# Altium footprint library 8494.PcbLib: 3 footprints
Each footprint in its own frame and in the unit in brackets; x right, y up, seen from the top. Pads: shape width x height; smd on the part's side, far side on the other; paste and mask are expansions set on the pad; w line width, h text height; cw(c..) or ccw(c..) is an arc to the next point about the centre after c.
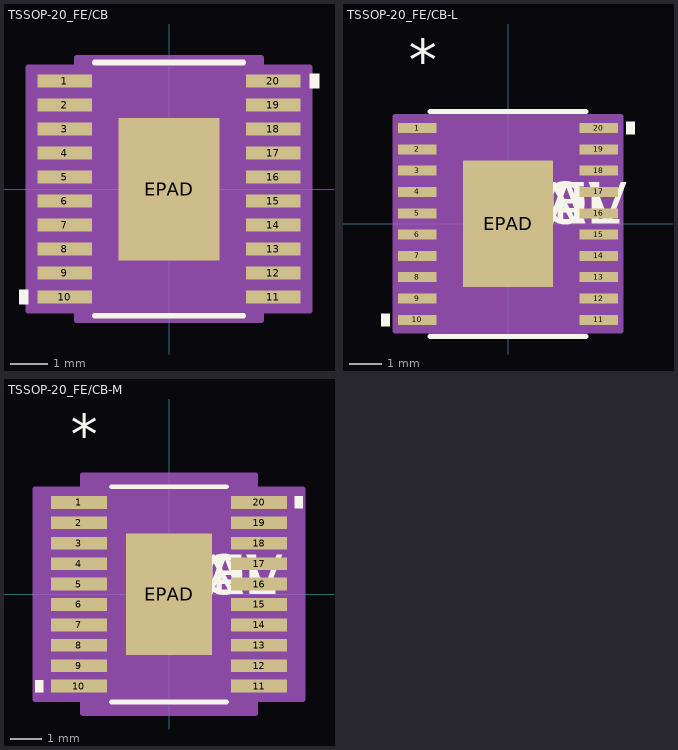
[diagram p0: the footprints below, top view; thin cyan lines are the x and y axes]

## TSSOP-20_FE/CB [mil]
pads (21):
  rect 58x14 smd: 1(-111,115.2) 2(-111,89.6) 3(-111,64) 4(-111,38.4) 5(-111,12.8) 6(-111,-12.8) 7(-111,-38.4) 8(-111,-64) 9(-111,-89.6) 10(-111,-115.2) 11(111,-115.2) 12(111,-89.6) 13(111,-64) 14(111,-38.4) 15(111,-12.8) 16(111,12.8) 17(111,38.4) 18(111,64) 19(111,89.6) 20(111,115.2)
  rect 108x152 smd paste-75.5: EPAD(0,0)
Top Overlay:
  region: 150,122.7 160,122.7 160,107.7 150,107.7
  region: -150,-107.7 -160,-107.7 -160,-122.7 -150,-122.7
  lines w6: -79.21,-135 79.21,-135 ; -79.21,135 79.21,135
Top Paste:
  region: 50.06,-29.27 3.94,-29.27 3.94,-72.06 50.06,-72.06
  region: 50.06,21.4 3.94,21.4 3.94,-21.4 50.06,-21.4
  region: 50.06,72.06 3.94,72.06 3.94,29.27 50.06,29.27
  region: -3.94,-29.27 -50.06,-29.27 -50.06,-72.06 -3.94,-72.06
  region: -3.94,21.4 -50.06,21.4 -50.06,-21.4 -3.94,-21.4
  region: -3.94,72.06 -50.06,72.06 -50.06,29.27 -3.94,29.27
Mechanical 13:
  lines w0: -12,130 ccw(c0,130) 12,130
Mechanical 15:
  region: -98.5,-130 -150,-130 -150,130 -98.5,130 -98.5,140 98.5,140 98.5,130 150,130 150,-130 98.5,-130 98.5,-140 -98.5,-140
  lines w6: -150,-130 -98.5,-130 -98.5,-140 98.5,-140 98.5,-130 150,-130 150,130 98.5,130 98.5,140 -98.5,140 -98.5,130 -150,130 -150,-130
3D body: height 10, standoff 0, extent 0,0 10,10

## TSSOP-20_FE/CB-L [mil]
pads (21):
  rect 46x12 smd: 1(-109,115.2) 2(-109,89.6) 3(-109,64) 4(-109,38.4) 5(-109,12.8) 6(-109,-12.8) 7(-109,-38.4) 8(-109,-64) 9(-109,-89.6) 10(-109,-115.2) 11(109,-115.2) 12(109,-89.6) 13(109,-64) 14(109,-38.4) 15(109,-12.8) 16(109,12.8) 17(109,38.4) 18(109,64) 19(109,89.6) 20(109,115.2)
  rect 108x152 smd paste-75.5: EPAD(0,0)
Top Overlay:
  region: -142,-107.7 -152,-107.7 -152,-122.7 -142,-122.7
  region: 142,122.7 152,122.7 152,107.7 142,107.7
  lines w6: -93.5,-135 93.5,-135 ; -93.5,135 93.5,135
  text "*" at -119,172.2 h50
  text "PN" at 0,0 h50
  text "DEV" at 0,0 h50
  text "VAL" at 0,0 h50
  text "TOL" at 0,0 h50
Top Paste:
  region: -3.94,72.06 -50.06,72.06 -50.06,29.27 -3.94,29.27
  region: -3.94,21.4 -50.06,21.4 -50.06,-21.4 -3.94,-21.4
  region: -3.94,-29.27 -50.06,-29.27 -50.06,-72.06 -3.94,-72.06
  region: 50.06,72.06 3.94,72.06 3.94,29.27 50.06,29.27
  region: 50.06,21.4 3.94,21.4 3.94,-21.4 50.06,-21.4
  region: 50.06,-29.27 3.94,-29.27 3.94,-72.06 50.06,-72.06
Mechanical 13:
  lines w0: -12,130 ccw(c0,130) 12,130
  text "*" at -73.5,127 h50
  text "RefDes2" at 0,0 h50
Mechanical 15:
  region: -92.5,-128.8 -136,-128.8 -136,128.8 -92.5,128.8 -92.5,134 92.5,134 92.5,128.8 136,128.8 136,-128.8 92.5,-128.8 92.5,-134 -92.5,-134
  lines w6: -136,-128.8 -136,128.8 -92.5,128.8 -92.5,134 92.5,134 92.5,128.8 136,128.8 136,-128.8 92.5,-128.8 92.5,-134 -92.5,-134 -92.5,-128.8 -136,-128.8
3D body: height 10, standoff 0, extent 0,0 10,10

## TSSOP-20_FE/CB-M [mil]
pads (21):
  rect 70x16 smd: 1(-113,115.2) 2(-113,89.6) 3(-113,64) 4(-113,38.4) 5(-113,12.8) 6(-113,-12.8) 7(-113,-38.4) 8(-113,-64) 9(-113,-89.6) 10(-113,-115.2) 11(113,-115.2) 12(113,-89.6) 13(113,-64) 14(113,-38.4) 15(113,-12.8) 16(113,12.8) 17(113,38.4) 18(113,64) 19(113,89.6) 20(113,115.2)
  rect 108x152 smd paste-75.5: EPAD(0,0)
Top Overlay:
  region: -158,-107.7 -168,-107.7 -168,-122.7 -158,-122.7
  region: 158,122.7 168,122.7 168,107.7 158,107.7
  lines w6: -72.31,-135 72.31,-135 ; -72.31,135 72.31,135
  text "*" at -123,176.2 h50
  text "PN" at 0,0 h50
  text "DEV" at 0,0 h50
  text "VAL" at 0,0 h50
  text "TOL" at 0,0 h50
Top Paste:
  region: -3.94,72.06 -50.06,72.06 -50.06,29.27 -3.94,29.27
  region: -3.94,21.4 -50.06,21.4 -50.06,-21.4 -3.94,-21.4
  region: -3.94,-29.27 -50.06,-29.27 -50.06,-72.06 -3.94,-72.06
  region: 50.06,72.06 3.94,72.06 3.94,29.27 50.06,29.27
  region: 50.06,21.4 3.94,21.4 3.94,-21.4 50.06,-21.4
  region: 50.06,-29.27 3.94,-29.27 3.94,-72.06 50.06,-72.06
Mechanical 13:
  lines w0: -12,130 ccw(c0,130) 12,130
  text "*" at -73.5,127 h50
  text "RefDes2" at 0,0 h50
Mechanical 15:
  region: -108.5,-132 -168,-132 -168,132 -108.5,132 -108.5,150 108.5,150 108.5,132 168,132 168,-132 108.5,-132 108.5,-150 -108.5,-150
  lines w6: -168,-132 -168,132 -108.5,132 -108.5,150 108.5,150 108.5,132 168,132 168,-132 108.5,-132 108.5,-150 -108.5,-150 -108.5,-132 -168,-132
3D body: height 10, standoff 0, extent 0,0 10,10